# Altium schematic symbol library SparkFun-Connectors.SCHLIB: 326 symbols (part 2 of 3)
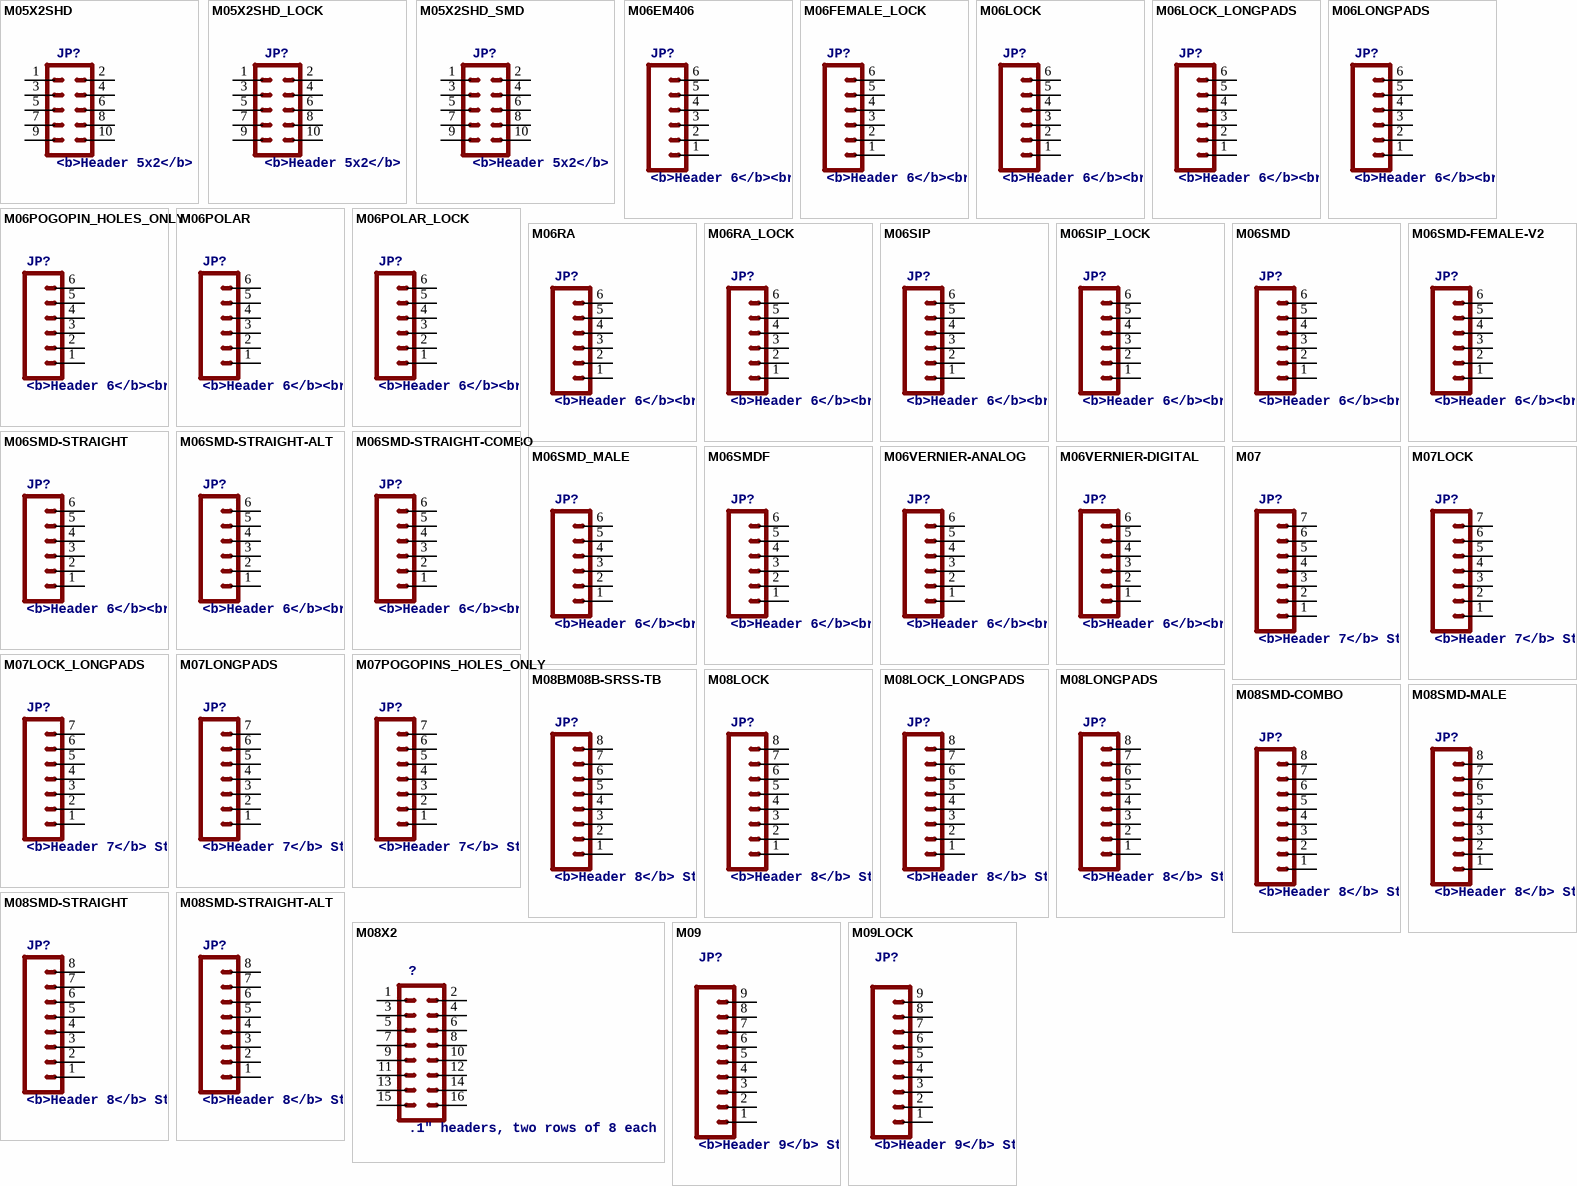
[diagram p10: symbols M05X2SHD to M09LOCK]

## M06LOCK
designator JP?, comment <b>Header 6</b><br> / Standard 6-pin 0.1" header. Use with straight break away headers (SKU : PRT-00116), right angle break away headers (PRT-00553), swiss pins (PRT-00743), machine pins (PRT-00117), and female headers (PRT-00115). Molex polarized connector foot print use with SKU : PRT-08094 with associated crimp pins and housings.<p> / NOTES ON THE VARIANTS LOCK and LOCK_LONGPADS... / This footprint was designed to help hold the alignment of a through-hole component (i.e.  6-pin header) while soldering it into place. You may notice that each hole has been shifted either up or down by 0.005 of an inch from it's more standard position (which is a perfectly straight line).  This slight alteration caused the pins (the squares in the middle) to touch the edges of the holes.  Because they are alternating, it causes a "brace" to hold the component in place.  0.005 has proven to be the perfect amount of "off-center" position when using our standard breakaway headers. Although looks a little odd when you look at the bare footprint, once you have a header in there, the alteration is very hard to notice.  Also,if you push a header all the way into place, it is covered up entirely on the bottom side.  This idea of altering the position of holes to aid alignment / will be further integrated into the Sparkfun Library for other footprints.  It can help hold any component with 3 or more connection pins.
footprint 1X06_LOCK
pins: 1, 2, 3, 4, 5, 6

## M06LOCK_LONGPADS
designator JP?, comment <b>Header 6</b><br> / Standard 6-pin 0.1" header. Use with straight break away headers (SKU : PRT-00116), right angle break away headers (PRT-00553), swiss pins (PRT-00743), machine pins (PRT-00117), and female headers (PRT-00115). Molex polarized connector foot print use with SKU : PRT-08094 with associated crimp pins and housings.<p> / NOTES ON THE VARIANTS LOCK and LOCK_LONGPADS... / This footprint was designed to help hold the alignment of a through-hole component (i.e.  6-pin header) while soldering it into place. You may notice that each hole has been shifted either up or down by 0.005 of an inch from it's more standard position (which is a perfectly straight line).  This slight alteration caused the pins (the squares in the middle) to touch the edges of the holes.  Because they are alternating, it causes a "brace" to hold the component in place.  0.005 has proven to be the perfect amount of "off-center" position when using our standard breakaway headers. Although looks a little odd when you look at the bare footprint, once you have a header in there, the alteration is very hard to notice.  Also,if you push a header all the way into place, it is covered up entirely on the bottom side.  This idea of altering the position of holes to aid alignment / will be further integrated into the Sparkfun Library for other footprints.  It can help hold any component with 3 or more connection pins.
footprint 1X06_LOCK_LONGPADS
pins: 1, 2, 3, 4, 5, 6

## M06LONGPADS
designator JP?, comment <b>Header 6</b><br> / Standard 6-pin 0.1" header. Use with straight break away headers (SKU : PRT-00116), right angle break away headers (PRT-00553), swiss pins (PRT-00743), machine pins (PRT-00117), and female headers (PRT-00115). Molex polarized connector foot print use with SKU : PRT-08094 with associated crimp pins and housings.<p> / NOTES ON THE VARIANTS LOCK and LOCK_LONGPADS... / This footprint was designed to help hold the alignment of a through-hole component (i.e.  6-pin header) while soldering it into place. You may notice that each hole has been shifted either up or down by 0.005 of an inch from it's more standard position (which is a perfectly straight line).  This slight alteration caused the pins (the squares in the middle) to touch the edges of the holes.  Because they are alternating, it causes a "brace" to hold the component in place.  0.005 has proven to be the perfect amount of "off-center" position when using our standard breakaway headers. Although looks a little odd when you look at the bare footprint, once you have a header in there, the alteration is very hard to notice.  Also,if you push a header all the way into place, it is covered up entirely on the bottom side.  This idea of altering the position of holes to aid alignment / will be further integrated into the Sparkfun Library for other footprints.  It can help hold any component with 3 or more connection pins.
footprint 1X06_LONGPADS
pins: 1, 2, 3, 4, 5, 6

## M06POGOPIN_HOLES_ONLY
designator JP?, comment <b>Header 6</b><br> / Standard 6-pin 0.1" header. Use with straight break away headers (SKU : PRT-00116), right angle break away headers (PRT-00553), swiss pins (PRT-00743), machine pins (PRT-00117), and female headers (PRT-00115). Molex polarized connector foot print use with SKU : PRT-08094 with associated crimp pins and housings.<p> / NOTES ON THE VARIANTS LOCK and LOCK_LONGPADS... / This footprint was designed to help hold the alignment of a through-hole component (i.e.  6-pin header) while soldering it into place. You may notice that each hole has been shifted either up or down by 0.005 of an inch from it's more standard position (which is a perfectly straight line).  This slight alteration caused the pins (the squares in the middle) to touch the edges of the holes.  Because they are alternating, it causes a "brace" to hold the component in place.  0.005 has proven to be the perfect amount of "off-center" position when using our standard breakaway headers. Although looks a little odd when you look at the bare footprint, once you have a header in there, the alteration is very hard to notice.  Also,if you push a header all the way into place, it is covered up entirely on the bottom side.  This idea of altering the position of holes to aid alignment / will be further integrated into the Sparkfun Library for other footprints.  It can help hold any component with 3 or more connection pins.
footprint 1X06_HOLES_ONLY
pins: 1, 2, 3, 4, 5, 6

## M06POLAR
designator JP?, comment <b>Header 6</b><br> / Standard 6-pin 0.1" header. Use with straight break away headers (SKU : PRT-00116), right angle break away headers (PRT-00553), swiss pins (PRT-00743), machine pins (PRT-00117), and female headers (PRT-00115). Molex polarized connector foot print use with SKU : PRT-08094 with associated crimp pins and housings.<p> / NOTES ON THE VARIANTS LOCK and LOCK_LONGPADS... / This footprint was designed to help hold the alignment of a through-hole component (i.e.  6-pin header) while soldering it into place. You may notice that each hole has been shifted either up or down by 0.005 of an inch from it's more standard position (which is a perfectly straight line).  This slight alteration caused the pins (the squares in the middle) to touch the edges of the holes.  Because they are alternating, it causes a "brace" to hold the component in place.  0.005 has proven to be the perfect amount of "off-center" position when using our standard breakaway headers. Although looks a little odd when you look at the bare footprint, once you have a header in there, the alteration is very hard to notice.  Also,if you push a header all the way into place, it is covered up entirely on the bottom side.  This idea of altering the position of holes to aid alignment / will be further integrated into the Sparkfun Library for other footprints.  It can help hold any component with 3 or more connection pins.
footprint MOLEX-1X6
pins: 1, 2, 3, 4, 5, 6

## M06POLAR_LOCK
designator JP?, comment <b>Header 6</b><br> / Standard 6-pin 0.1" header. Use with straight break away headers (SKU : PRT-00116), right angle break away headers (PRT-00553), swiss pins (PRT-00743), machine pins (PRT-00117), and female headers (PRT-00115). Molex polarized connector foot print use with SKU : PRT-08094 with associated crimp pins and housings.<p> / NOTES ON THE VARIANTS LOCK and LOCK_LONGPADS... / This footprint was designed to help hold the alignment of a through-hole component (i.e.  6-pin header) while soldering it into place. You may notice that each hole has been shifted either up or down by 0.005 of an inch from it's more standard position (which is a perfectly straight line).  This slight alteration caused the pins (the squares in the middle) to touch the edges of the holes.  Because they are alternating, it causes a "brace" to hold the component in place.  0.005 has proven to be the perfect amount of "off-center" position when using our standard breakaway headers. Although looks a little odd when you look at the bare footprint, once you have a header in there, the alteration is very hard to notice.  Also,if you push a header all the way into place, it is covered up entirely on the bottom side.  This idea of altering the position of holes to aid alignment / will be further integrated into the Sparkfun Library for other footprints.  It can help hold any component with 3 or more connection pins.
footprint MOLEX-1X6_LOCK
pins: 1, 2, 3, 4, 5, 6

## M06RA
designator JP?, comment <b>Header 6</b><br> / Standard 6-pin 0.1" header. Use with straight break away headers (SKU : PRT-00116), right angle break away headers (PRT-00553), swiss pins (PRT-00743), machine pins (PRT-00117), and female headers (PRT-00115). Molex polarized connector foot print use with SKU : PRT-08094 with associated crimp pins and housings.<p> / NOTES ON THE VARIANTS LOCK and LOCK_LONGPADS... / This footprint was designed to help hold the alignment of a through-hole component (i.e.  6-pin header) while soldering it into place. You may notice that each hole has been shifted either up or down by 0.005 of an inch from it's more standard position (which is a perfectly straight line).  This slight alteration caused the pins (the squares in the middle) to touch the edges of the holes.  Because they are alternating, it causes a "brace" to hold the component in place.  0.005 has proven to be the perfect amount of "off-center" position when using our standard breakaway headers. Although looks a little odd when you look at the bare footprint, once you have a header in there, the alteration is very hard to notice.  Also,if you push a header all the way into place, it is covered up entirely on the bottom side.  This idea of altering the position of holes to aid alignment / will be further integrated into the Sparkfun Library for other footprints.  It can help hold any component with 3 or more connection pins.
footprint MOLEX-1X6-RA
pins: 1, 2, 3, 4, 5, 6

## M06RA_LOCK
designator JP?, comment <b>Header 6</b><br> / Standard 6-pin 0.1" header. Use with straight break away headers (SKU : PRT-00116), right angle break away headers (PRT-00553), swiss pins (PRT-00743), machine pins (PRT-00117), and female headers (PRT-00115). Molex polarized connector foot print use with SKU : PRT-08094 with associated crimp pins and housings.<p> / NOTES ON THE VARIANTS LOCK and LOCK_LONGPADS... / This footprint was designed to help hold the alignment of a through-hole component (i.e.  6-pin header) while soldering it into place. You may notice that each hole has been shifted either up or down by 0.005 of an inch from it's more standard position (which is a perfectly straight line).  This slight alteration caused the pins (the squares in the middle) to touch the edges of the holes.  Because they are alternating, it causes a "brace" to hold the component in place.  0.005 has proven to be the perfect amount of "off-center" position when using our standard breakaway headers. Although looks a little odd when you look at the bare footprint, once you have a header in there, the alteration is very hard to notice.  Also,if you push a header all the way into place, it is covered up entirely on the bottom side.  This idea of altering the position of holes to aid alignment / will be further integrated into the Sparkfun Library for other footprints.  It can help hold any component with 3 or more connection pins.
footprint MOLEX-1X6-RA_LOCK
pins: 1, 2, 3, 4, 5, 6

## M06SIP
designator JP?, comment <b>Header 6</b><br> / Standard 6-pin 0.1" header. Use with straight break away headers (SKU : PRT-00116), right angle break away headers (PRT-00553), swiss pins (PRT-00743), machine pins (PRT-00117), and female headers (PRT-00115). Molex polarized connector foot print use with SKU : PRT-08094 with associated crimp pins and housings.<p> / NOTES ON THE VARIANTS LOCK and LOCK_LONGPADS... / This footprint was designed to help hold the alignment of a through-hole component (i.e.  6-pin header) while soldering it into place. You may notice that each hole has been shifted either up or down by 0.005 of an inch from it's more standard position (which is a perfectly straight line).  This slight alteration caused the pins (the squares in the middle) to touch the edges of the holes.  Because they are alternating, it causes a "brace" to hold the component in place.  0.005 has proven to be the perfect amount of "off-center" position when using our standard breakaway headers. Although looks a little odd when you look at the bare footprint, once you have a header in there, the alteration is very hard to notice.  Also,if you push a header all the way into place, it is covered up entirely on the bottom side.  This idea of altering the position of holes to aid alignment / will be further integrated into the Sparkfun Library for other footprints.  It can help hold any component with 3 or more connection pins.
footprint 1X06
pins: 1, 2, 3, 4, 5, 6

## M06SIP_LOCK
designator JP?, comment <b>Header 6</b><br> / Standard 6-pin 0.1" header. Use with straight break away headers (SKU : PRT-00116), right angle break away headers (PRT-00553), swiss pins (PRT-00743), machine pins (PRT-00117), and female headers (PRT-00115). Molex polarized connector foot print use with SKU : PRT-08094 with associated crimp pins and housings.<p> / NOTES ON THE VARIANTS LOCK and LOCK_LONGPADS... / This footprint was designed to help hold the alignment of a through-hole component (i.e.  6-pin header) while soldering it into place. You may notice that each hole has been shifted either up or down by 0.005 of an inch from it's more standard position (which is a perfectly straight line).  This slight alteration caused the pins (the squares in the middle) to touch the edges of the holes.  Because they are alternating, it causes a "brace" to hold the component in place.  0.005 has proven to be the perfect amount of "off-center" position when using our standard breakaway headers. Although looks a little odd when you look at the bare footprint, once you have a header in there, the alteration is very hard to notice.  Also,if you push a header all the way into place, it is covered up entirely on the bottom side.  This idea of altering the position of holes to aid alignment / will be further integrated into the Sparkfun Library for other footprints.  It can help hold any component with 3 or more connection pins.
footprint 1X06-SIP_LOCK
pins: 1, 2, 3, 4, 5, 6

## M06SMD
designator JP?, comment <b>Header 6</b><br> / Standard 6-pin 0.1" header. Use with straight break away headers (SKU : PRT-00116), right angle break away headers (PRT-00553), swiss pins (PRT-00743), machine pins (PRT-00117), and female headers (PRT-00115). Molex polarized connector foot print use with SKU : PRT-08094 with associated crimp pins and housings.<p> / NOTES ON THE VARIANTS LOCK and LOCK_LONGPADS... / This footprint was designed to help hold the alignment of a through-hole component (i.e.  6-pin header) while soldering it into place. You may notice that each hole has been shifted either up or down by 0.005 of an inch from it's more standard position (which is a perfectly straight line).  This slight alteration caused the pins (the squares in the middle) to touch the edges of the holes.  Because they are alternating, it causes a "brace" to hold the component in place.  0.005 has proven to be the perfect amount of "off-center" position when using our standard breakaway headers. Although looks a little odd when you look at the bare footprint, once you have a header in there, the alteration is very hard to notice.  Also,if you push a header all the way into place, it is covered up entirely on the bottom side.  This idea of altering the position of holes to aid alignment / will be further integrated into the Sparkfun Library for other footprints.  It can help hold any component with 3 or more connection pins.
footprint 1X06-SMD
pins: 1, 2, 3, 4, 5, 6

## M06SMD-FEMALE-V2
designator JP?, comment <b>Header 6</b><br> / Standard 6-pin 0.1" header. Use with straight break away headers (SKU : PRT-00116), right angle break away headers (PRT-00553), swiss pins (PRT-00743), machine pins (PRT-00117), and female headers (PRT-00115). Molex polarized connector foot print use with SKU : PRT-08094 with associated crimp pins and housings.<p> / NOTES ON THE VARIANTS LOCK and LOCK_LONGPADS... / This footprint was designed to help hold the alignment of a through-hole component (i.e.  6-pin header) while soldering it into place. You may notice that each hole has been shifted either up or down by 0.005 of an inch from it's more standard position (which is a perfectly straight line).  This slight alteration caused the pins (the squares in the middle) to touch the edges of the holes.  Because they are alternating, it causes a "brace" to hold the component in place.  0.005 has proven to be the perfect amount of "off-center" position when using our standard breakaway headers. Although looks a little odd when you look at the bare footprint, once you have a header in there, the alteration is very hard to notice.  Also,if you push a header all the way into place, it is covered up entirely on the bottom side.  This idea of altering the position of holes to aid alignment / will be further integrated into the Sparkfun Library for other footprints.  It can help hold any component with 3 or more connection pins.
footprint 1X06-SMD-FEMALE-V2
pins: 1, 2, 3, 4, 5, 6

## M06SMD-STRAIGHT
designator JP?, comment <b>Header 6</b><br> / Standard 6-pin 0.1" header. Use with straight break away headers (SKU : PRT-00116), right angle break away headers (PRT-00553), swiss pins (PRT-00743), machine pins (PRT-00117), and female headers (PRT-00115). Molex polarized connector foot print use with SKU : PRT-08094 with associated crimp pins and housings.<p> / NOTES ON THE VARIANTS LOCK and LOCK_LONGPADS... / This footprint was designed to help hold the alignment of a through-hole component (i.e.  6-pin header) while soldering it into place. You may notice that each hole has been shifted either up or down by 0.005 of an inch from it's more standard position (which is a perfectly straight line).  This slight alteration caused the pins (the squares in the middle) to touch the edges of the holes.  Because they are alternating, it causes a "brace" to hold the component in place.  0.005 has proven to be the perfect amount of "off-center" position when using our standard breakaway headers. Although looks a little odd when you look at the bare footprint, once you have a header in there, the alteration is very hard to notice.  Also,if you push a header all the way into place, it is covered up entirely on the bottom side.  This idea of altering the position of holes to aid alignment / will be further integrated into the Sparkfun Library for other footprints.  It can help hold any component with 3 or more connection pins.
footprint 1X06_SMD_STRAIGHT
pins: 1, 2, 3, 4, 5, 6

## M06SMD-STRAIGHT-ALT
designator JP?, comment <b>Header 6</b><br> / Standard 6-pin 0.1" header. Use with straight break away headers (SKU : PRT-00116), right angle break away headers (PRT-00553), swiss pins (PRT-00743), machine pins (PRT-00117), and female headers (PRT-00115). Molex polarized connector foot print use with SKU : PRT-08094 with associated crimp pins and housings.<p> / NOTES ON THE VARIANTS LOCK and LOCK_LONGPADS... / This footprint was designed to help hold the alignment of a through-hole component (i.e.  6-pin header) while soldering it into place. You may notice that each hole has been shifted either up or down by 0.005 of an inch from it's more standard position (which is a perfectly straight line).  This slight alteration caused the pins (the squares in the middle) to touch the edges of the holes.  Because they are alternating, it causes a "brace" to hold the component in place.  0.005 has proven to be the perfect amount of "off-center" position when using our standard breakaway headers. Although looks a little odd when you look at the bare footprint, once you have a header in there, the alteration is very hard to notice.  Also,if you push a header all the way into place, it is covered up entirely on the bottom side.  This idea of altering the position of holes to aid alignment / will be further integrated into the Sparkfun Library for other footprints.  It can help hold any component with 3 or more connection pins.
footprint 1X06_SMD_STRAIGHT_ALT
pins: 1, 2, 3, 4, 5, 6

## M06SMD-STRAIGHT-COMBO
designator JP?, comment <b>Header 6</b><br> / Standard 6-pin 0.1" header. Use with straight break away headers (SKU : PRT-00116), right angle break away headers (PRT-00553), swiss pins (PRT-00743), machine pins (PRT-00117), and female headers (PRT-00115). Molex polarized connector foot print use with SKU : PRT-08094 with associated crimp pins and housings.<p> / NOTES ON THE VARIANTS LOCK and LOCK_LONGPADS... / This footprint was designed to help hold the alignment of a through-hole component (i.e.  6-pin header) while soldering it into place. You may notice that each hole has been shifted either up or down by 0.005 of an inch from it's more standard position (which is a perfectly straight line).  This slight alteration caused the pins (the squares in the middle) to touch the edges of the holes.  Because they are alternating, it causes a "brace" to hold the component in place.  0.005 has proven to be the perfect amount of "off-center" position when using our standard breakaway headers. Although looks a little odd when you look at the bare footprint, once you have a header in there, the alteration is very hard to notice.  Also,if you push a header all the way into place, it is covered up entirely on the bottom side.  This idea of altering the position of holes to aid alignment / will be further integrated into the Sparkfun Library for other footprints.  It can help hold any component with 3 or more connection pins.
footprint 1X06_SMD_STRAIGHT_COMBO
pins: 1, 2, 3, 4, 5, 6

## M06SMD_MALE
designator JP?, comment <b>Header 6</b><br> / Standard 6-pin 0.1" header. Use with straight break away headers (SKU : PRT-00116), right angle break away headers (PRT-00553), swiss pins (PRT-00743), machine pins (PRT-00117), and female headers (PRT-00115). Molex polarized connector foot print use with SKU : PRT-08094 with associated crimp pins and housings.<p> / NOTES ON THE VARIANTS LOCK and LOCK_LONGPADS... / This footprint was designed to help hold the alignment of a through-hole component (i.e.  6-pin header) while soldering it into place. You may notice that each hole has been shifted either up or down by 0.005 of an inch from it's more standard position (which is a perfectly straight line).  This slight alteration caused the pins (the squares in the middle) to touch the edges of the holes.  Because they are alternating, it causes a "brace" to hold the component in place.  0.005 has proven to be the perfect amount of "off-center" position when using our standard breakaway headers. Although looks a little odd when you look at the bare footprint, once you have a header in there, the alteration is very hard to notice.  Also,if you push a header all the way into place, it is covered up entirely on the bottom side.  This idea of altering the position of holes to aid alignment / will be further integrated into the Sparkfun Library for other footprints.  It can help hold any component with 3 or more connection pins.
PROD_ID: CONN-11293
footprint 1X06_SMD_MALE
pins: 1, 2, 3, 4, 5, 6

## M06SMDF
designator JP?, comment <b>Header 6</b><br> / Standard 6-pin 0.1" header. Use with straight break away headers (SKU : PRT-00116), right angle break away headers (PRT-00553), swiss pins (PRT-00743), machine pins (PRT-00117), and female headers (PRT-00115). Molex polarized connector foot print use with SKU : PRT-08094 with associated crimp pins and housings.<p> / NOTES ON THE VARIANTS LOCK and LOCK_LONGPADS... / This footprint was designed to help hold the alignment of a through-hole component (i.e.  6-pin header) while soldering it into place. You may notice that each hole has been shifted either up or down by 0.005 of an inch from it's more standard position (which is a perfectly straight line).  This slight alteration caused the pins (the squares in the middle) to touch the edges of the holes.  Because they are alternating, it causes a "brace" to hold the component in place.  0.005 has proven to be the perfect amount of "off-center" position when using our standard breakaway headers. Although looks a little odd when you look at the bare footprint, once you have a header in there, the alteration is very hard to notice.  Also,if you push a header all the way into place, it is covered up entirely on the bottom side.  This idea of altering the position of holes to aid alignment / will be further integrated into the Sparkfun Library for other footprints.  It can help hold any component with 3 or more connection pins.
footprint 1X06-SMD-FEMALE
pins: 1, 2, 3, 4, 5, 6

## M06VERNIER-ANALOG
designator JP?, comment <b>Header 6</b><br> / Standard 6-pin 0.1" header. Use with straight break away headers (SKU : PRT-00116), right angle break away headers (PRT-00553), swiss pins (PRT-00743), machine pins (PRT-00117), and female headers (PRT-00115). Molex polarized connector foot print use with SKU : PRT-08094 with associated crimp pins and housings.<p> / NOTES ON THE VARIANTS LOCK and LOCK_LONGPADS... / This footprint was designed to help hold the alignment of a through-hole component (i.e.  6-pin header) while soldering it into place. You may notice that each hole has been shifted either up or down by 0.005 of an inch from it's more standard position (which is a perfectly straight line).  This slight alteration caused the pins (the squares in the middle) to touch the edges of the holes.  Because they are alternating, it causes a "brace" to hold the component in place.  0.005 has proven to be the perfect amount of "off-center" position when using our standard breakaway headers. Although looks a little odd when you look at the bare footprint, once you have a header in there, the alteration is very hard to notice.  Also,if you push a header all the way into place, it is covered up entirely on the bottom side.  This idea of altering the position of holes to aid alignment / will be further integrated into the Sparkfun Library for other footprints.  It can help hold any component with 3 or more connection pins.
footprint BTA
pins: 1, 2, 3, 4, 5, 6

## M06VERNIER-DIGITAL
designator JP?, comment <b>Header 6</b><br> / Standard 6-pin 0.1" header. Use with straight break away headers (SKU : PRT-00116), right angle break away headers (PRT-00553), swiss pins (PRT-00743), machine pins (PRT-00117), and female headers (PRT-00115). Molex polarized connector foot print use with SKU : PRT-08094 with associated crimp pins and housings.<p> / NOTES ON THE VARIANTS LOCK and LOCK_LONGPADS... / This footprint was designed to help hold the alignment of a through-hole component (i.e.  6-pin header) while soldering it into place. You may notice that each hole has been shifted either up or down by 0.005 of an inch from it's more standard position (which is a perfectly straight line).  This slight alteration caused the pins (the squares in the middle) to touch the edges of the holes.  Because they are alternating, it causes a "brace" to hold the component in place.  0.005 has proven to be the perfect amount of "off-center" position when using our standard breakaway headers. Although looks a little odd when you look at the bare footprint, once you have a header in there, the alteration is very hard to notice.  Also,if you push a header all the way into place, it is covered up entirely on the bottom side.  This idea of altering the position of holes to aid alignment / will be further integrated into the Sparkfun Library for other footprints.  It can help hold any component with 3 or more connection pins.
footprint BTD
pins: 1, 2, 3, 4, 5, 6

## M07
designator JP?, comment <b>Header 7</b> / Standard 7-pin 0.1" header. Use with straight break away headers (SKU : PRT-00116), right angle break away headers (PRT-00553), swiss pins (PRT-00743), machine pins (PRT-00117), and female headers (PRT-00115).  NOTES ON THE VARIANTS LOCK and LOCK_LONGPADS... This footprint was designed to help hold the alignment of a through-hole component (i.e. 7-pin header) while soldering it into place. You may notice that each hole has been shifted either up or down by 0.005 of an inch from it's more standard position (which is usually a perfectly straight line). This slight alteration caused the pins (the squares in the middle) to touch the edges of the holes. Because they are alternating, it causes a "brace" to hold the header in place. 0.005 has proven to be the perfect amount of "off-center" position when using our standard breakaway headers. Although looks a little odd when you look at the bare footprint, once you have a header in there, the alteration is very hard to notice. Also, if you push a header all the way into place, it is covered up entirely on the bottom side. This idea of altering the position of holes to aid alignment will be further integrated into the Sparkfun Library for other footprints. It can help hold any component with 3 or more connection pins.
footprint 1X07
pins: 1, 2, 3, 4, 5, 6, 7

## M07LOCK
designator JP?, comment <b>Header 7</b> / Standard 7-pin 0.1" header. Use with straight break away headers (SKU : PRT-00116), right angle break away headers (PRT-00553), swiss pins (PRT-00743), machine pins (PRT-00117), and female headers (PRT-00115).  NOTES ON THE VARIANTS LOCK and LOCK_LONGPADS... This footprint was designed to help hold the alignment of a through-hole component (i.e. 7-pin header) while soldering it into place. You may notice that each hole has been shifted either up or down by 0.005 of an inch from it's more standard position (which is usually a perfectly straight line). This slight alteration caused the pins (the squares in the middle) to touch the edges of the holes. Because they are alternating, it causes a "brace" to hold the header in place. 0.005 has proven to be the perfect amount of "off-center" position when using our standard breakaway headers. Although looks a little odd when you look at the bare footprint, once you have a header in there, the alteration is very hard to notice. Also, if you push a header all the way into place, it is covered up entirely on the bottom side. This idea of altering the position of holes to aid alignment will be further integrated into the Sparkfun Library for other footprints. It can help hold any component with 3 or more connection pins.
footprint 1X07_LOCK
pins: 1, 2, 3, 4, 5, 6, 7

## M07LOCK_LONGPADS
designator JP?, comment <b>Header 7</b> / Standard 7-pin 0.1" header. Use with straight break away headers (SKU : PRT-00116), right angle break away headers (PRT-00553), swiss pins (PRT-00743), machine pins (PRT-00117), and female headers (PRT-00115).  NOTES ON THE VARIANTS LOCK and LOCK_LONGPADS... This footprint was designed to help hold the alignment of a through-hole component (i.e. 7-pin header) while soldering it into place. You may notice that each hole has been shifted either up or down by 0.005 of an inch from it's more standard position (which is usually a perfectly straight line). This slight alteration caused the pins (the squares in the middle) to touch the edges of the holes. Because they are alternating, it causes a "brace" to hold the header in place. 0.005 has proven to be the perfect amount of "off-center" position when using our standard breakaway headers. Although looks a little odd when you look at the bare footprint, once you have a header in there, the alteration is very hard to notice. Also, if you push a header all the way into place, it is covered up entirely on the bottom side. This idea of altering the position of holes to aid alignment will be further integrated into the Sparkfun Library for other footprints. It can help hold any component with 3 or more connection pins.
footprint 1X07_LOCK_LONGPADS
pins: 1, 2, 3, 4, 5, 6, 7

## M07LONGPADS
designator JP?, comment <b>Header 7</b> / Standard 7-pin 0.1" header. Use with straight break away headers (SKU : PRT-00116), right angle break away headers (PRT-00553), swiss pins (PRT-00743), machine pins (PRT-00117), and female headers (PRT-00115).  NOTES ON THE VARIANTS LOCK and LOCK_LONGPADS... This footprint was designed to help hold the alignment of a through-hole component (i.e. 7-pin header) while soldering it into place. You may notice that each hole has been shifted either up or down by 0.005 of an inch from it's more standard position (which is usually a perfectly straight line). This slight alteration caused the pins (the squares in the middle) to touch the edges of the holes. Because they are alternating, it causes a "brace" to hold the header in place. 0.005 has proven to be the perfect amount of "off-center" position when using our standard breakaway headers. Although looks a little odd when you look at the bare footprint, once you have a header in there, the alteration is very hard to notice. Also, if you push a header all the way into place, it is covered up entirely on the bottom side. This idea of altering the position of holes to aid alignment will be further integrated into the Sparkfun Library for other footprints. It can help hold any component with 3 or more connection pins.
footprint 1X07_LONGPADS
pins: 1, 2, 3, 4, 5, 6, 7

## M07POGOPINS_HOLES_ONLY
designator JP?, comment <b>Header 7</b> / Standard 7-pin 0.1" header. Use with straight break away headers (SKU : PRT-00116), right angle break away headers (PRT-00553), swiss pins (PRT-00743), machine pins (PRT-00117), and female headers (PRT-00115).  NOTES ON THE VARIANTS LOCK and LOCK_LONGPADS... This footprint was designed to help hold the alignment of a through-hole component (i.e. 7-pin header) while soldering it into place. You may notice that each hole has been shifted either up or down by 0.005 of an inch from it's more standard position (which is usually a perfectly straight line). This slight alteration caused the pins (the squares in the middle) to touch the edges of the holes. Because they are alternating, it causes a "brace" to hold the header in place. 0.005 has proven to be the perfect amount of "off-center" position when using our standard breakaway headers. Although looks a little odd when you look at the bare footprint, once you have a header in there, the alteration is very hard to notice. Also, if you push a header all the way into place, it is covered up entirely on the bottom side. This idea of altering the position of holes to aid alignment will be further integrated into the Sparkfun Library for other footprints. It can help hold any component with 3 or more connection pins.
footprint 1X07_HOLES_ONLY
pins: 1, 2, 3, 4, 5, 6, 7

## M08BM08B-SRSS-TB
designator JP?, comment <b>Header 8</b> / Standard 8-pin 0.1" header. Use with straight break away headers (SKU : PRT-00116), right angle break away headers (PRT-00553), swiss pins (PRT-00743), machine pins (PRT-00117), and female headers (PRT-00115).
footprint BM08B-SRSS-TB
pins: 1, 2, 3, 4, 5, 6, 7, 8

## M08LOCK
designator JP?, comment <b>Header 8</b> / Standard 8-pin 0.1" header. Use with straight break away headers (SKU : PRT-00116), right angle break away headers (PRT-00553), swiss pins (PRT-00743), machine pins (PRT-00117), and female headers (PRT-00115).
footprint 1X08_LOCK
pins: 1, 2, 3, 4, 5, 6, 7, 8

## M08LOCK_LONGPADS
designator JP?, comment <b>Header 8</b> / Standard 8-pin 0.1" header. Use with straight break away headers (SKU : PRT-00116), right angle break away headers (PRT-00553), swiss pins (PRT-00743), machine pins (PRT-00117), and female headers (PRT-00115).
footprint 1X08_LOCK_LONGPADS
pins: 1, 2, 3, 4, 5, 6, 7, 8

## M08LONGPADS
designator JP?, comment <b>Header 8</b> / Standard 8-pin 0.1" header. Use with straight break away headers (SKU : PRT-00116), right angle break away headers (PRT-00553), swiss pins (PRT-00743), machine pins (PRT-00117), and female headers (PRT-00115).
footprint 1X08_LONGPADS
pins: 1, 2, 3, 4, 5, 6, 7, 8

## M08SMD-COMBO
designator JP?, comment <b>Header 8</b> / Standard 8-pin 0.1" header. Use with straight break away headers (SKU : PRT-00116), right angle break away headers (PRT-00553), swiss pins (PRT-00743), machine pins (PRT-00117), and female headers (PRT-00115).
footprint 1X08_SMD_COMBINED
pins: 1, 2, 3, 4, 5, 6, 7, 8

## M08SMD-MALE
designator JP?, comment <b>Header 8</b> / Standard 8-pin 0.1" header. Use with straight break away headers (SKU : PRT-00116), right angle break away headers (PRT-00553), swiss pins (PRT-00743), machine pins (PRT-00117), and female headers (PRT-00115).
PROD_ID: CONN-11292
footprint 1X08_SMD_MALE
pins: 1, 2, 3, 4, 5, 6, 7, 8

## M08SMD-STRAIGHT
designator JP?, comment <b>Header 8</b> / Standard 8-pin 0.1" header. Use with straight break away headers (SKU : PRT-00116), right angle break away headers (PRT-00553), swiss pins (PRT-00743), machine pins (PRT-00117), and female headers (PRT-00115).
footprint 1X08_SMD
pins: 1, 2, 3, 4, 5, 6, 7, 8

## M08SMD-STRAIGHT-ALT
designator JP?, comment <b>Header 8</b> / Standard 8-pin 0.1" header. Use with straight break away headers (SKU : PRT-00116), right angle break away headers (PRT-00553), swiss pins (PRT-00743), machine pins (PRT-00117), and female headers (PRT-00115).
footprint 1X08_SMD_ALT
pins: 1, 2, 3, 4, 5, 6, 7, 8

## M08X2
designator ?, comment .1" headers, two rows of 8 each
footprint 2X8
pins: 1, 2, 3, 4, 5, 6, 7, 8, 9, 10, 11, 12, 13, 14, 15, 16

## M09
designator JP?, comment <b>Header 9</b> / Standard 9-pin 0.1" header. Use with straight break away headers (SKU : PRT-00116), right angle break away headers (PRT-00553), swiss pins (PRT-00743), machine pins (PRT-00117), and female headers (PRT-00115).
footprint 1X09
pins: 1, 2, 3, 4, 5, 6, 7, 8, 9

## M09LOCK
designator JP?, comment <b>Header 9</b> / Standard 9-pin 0.1" header. Use with straight break away headers (SKU : PRT-00116), right angle break away headers (PRT-00553), swiss pins (PRT-00743), machine pins (PRT-00117), and female headers (PRT-00115).
footprint 1X09_LOCK
pins: 1, 2, 3, 4, 5, 6, 7, 8, 9

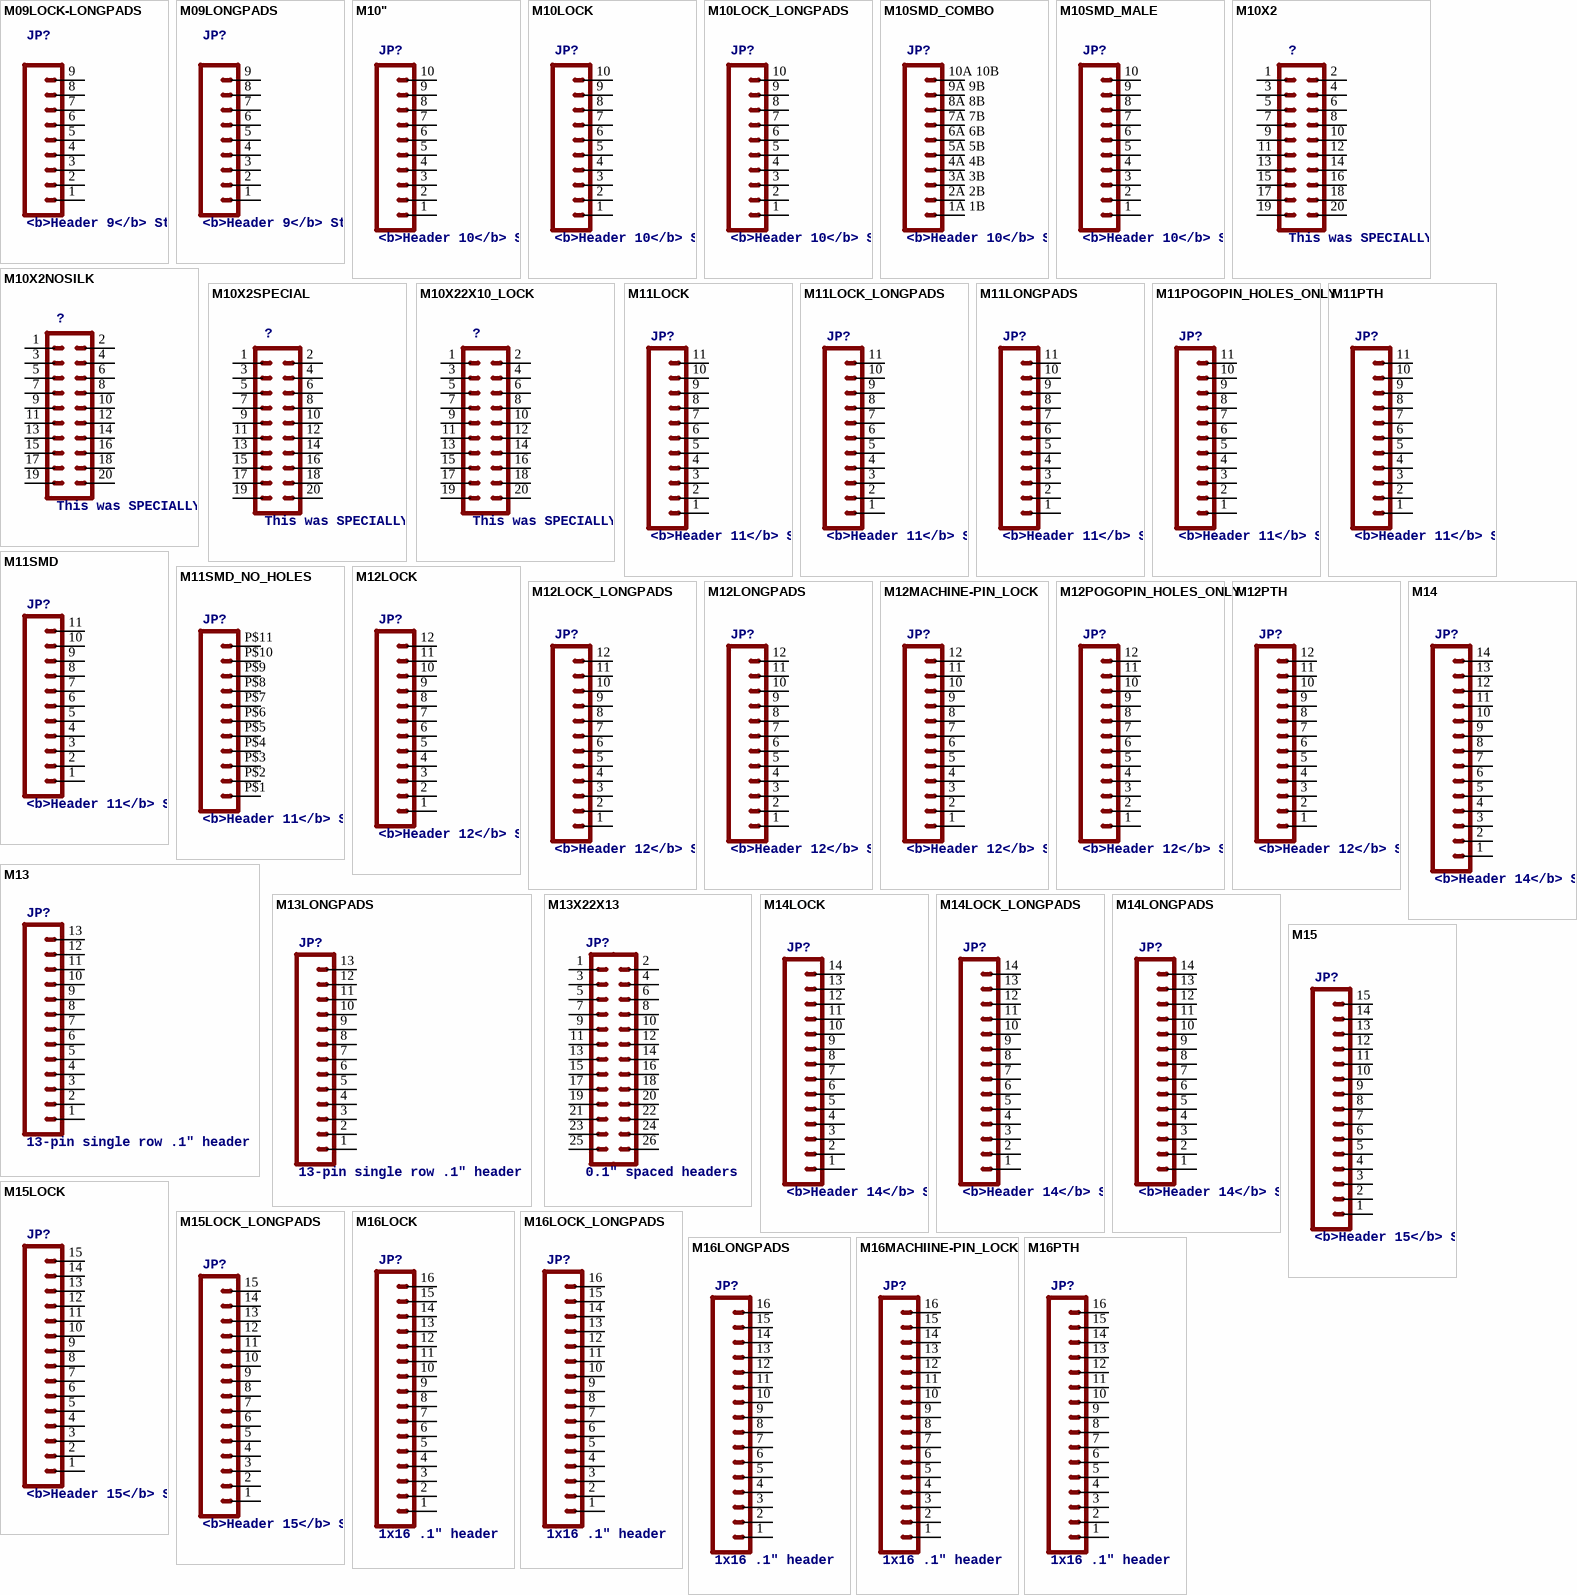
[diagram p5: symbols M09LOCK-LONGPADS to M16PTH]

## M09LOCK-LONGPADS
designator JP?, comment <b>Header 9</b> / Standard 9-pin 0.1" header. Use with straight break away headers (SKU : PRT-00116), right angle break away headers (PRT-00553), swiss pins (PRT-00743), machine pins (PRT-00117), and female headers (PRT-00115).
footprint 1X09_LOCK_LONGPADS
pins: 1, 2, 3, 4, 5, 6, 7, 8, 9

## M09LONGPADS
designator JP?, comment <b>Header 9</b> / Standard 9-pin 0.1" header. Use with straight break away headers (SKU : PRT-00116), right angle break away headers (PRT-00553), swiss pins (PRT-00743), machine pins (PRT-00117), and female headers (PRT-00115).
footprint 1X09_LONGPADS
pins: 1, 2, 3, 4, 5, 6, 7, 8, 9

## M10"
designator JP?, comment <b>Header 10</b> / Standard 10-pin 0.1" header. Use with straight break away headers (SKU : PRT-00116), right angle break away headers (PRT-00553), swiss pins (PRT-00743), machine pins (PRT-00117), and female headers (PRT-00115).
footprint 1X10
pins: 1, 2, 3, 4, 5, 6, 7, 8, 9, 10

## M10LOCK
designator JP?, comment <b>Header 10</b> / Standard 10-pin 0.1" header. Use with straight break away headers (SKU : PRT-00116), right angle break away headers (PRT-00553), swiss pins (PRT-00743), machine pins (PRT-00117), and female headers (PRT-00115).
footprint 1X10_LOCK
pins: 1, 2, 3, 4, 5, 6, 7, 8, 9, 10

## M10LOCK_LONGPADS
designator JP?, comment <b>Header 10</b> / Standard 10-pin 0.1" header. Use with straight break away headers (SKU : PRT-00116), right angle break away headers (PRT-00553), swiss pins (PRT-00743), machine pins (PRT-00117), and female headers (PRT-00115).
footprint 1X10_LOCK_LONGPADS
pins: 1, 2, 3, 4, 5, 6, 7, 8, 9, 10

## M10SMD_COMBO
designator JP?, comment <b>Header 10</b> / Standard 10-pin 0.1" header. Use with straight break away headers (SKU : PRT-00116), right angle break away headers (PRT-00553), swiss pins (PRT-00743), machine pins (PRT-00117), and female headers (PRT-00115).
footprint 1X10_SMD_COMBINED
pins: 1A 1B 1, 2A 2B 2, 3A 3B 3, 4A 4B 4, 5A 5B 5, 6A 6B 6, 7A 7B 7, 8A 8B 8, 9A 9B 9, 10A 10B 10

## M10SMD_MALE
designator JP?, comment <b>Header 10</b> / Standard 10-pin 0.1" header. Use with straight break away headers (SKU : PRT-00116), right angle break away headers (PRT-00553), swiss pins (PRT-00743), machine pins (PRT-00117), and female headers (PRT-00115).
PROD_ID: CONN-11291
footprint 1X10_SMD_MALE
pins: 1, 2, 3, 4, 5, 6, 7, 8, 9, 10

## M10X2
designator ?, comment This was SPECIALLY designed to be used with our Graphic LCD Backpack.  Be sure you want to use this!  It is not only staggered on each line of header holes, but IT IS ALSO offset of the center point of the top and bottom lines by 5 mil.  This causes the headers to lock into place on the "standard" footprint on the LCD screen.  The extra squares on the tdocu layer are there simply to reference other pins (if you were to actually populate a longer header than ten long - this is what we do with the backpacks).
footprint 2X10
pins: 1, 2, 3, 4, 5, 6, 7, 8, 9, 10, 11, 12, 13, 14, 15, 16, 17, 18, 19, 20

## M10X2NOSILK
designator ?, comment This was SPECIALLY designed to be used with our Graphic LCD Backpack.  Be sure you want to use this!  It is not only staggered on each line of header holes, but IT IS ALSO offset of the center point of the top and bottom lines by 5 mil.  This causes the headers to lock into place on the "standard" footprint on the LCD screen.  The extra squares on the tdocu layer are there simply to reference other pins (if you were to actually populate a longer header than ten long - this is what we do with the backpacks).
footprint 2X10_NOSILK
pins: 1, 2, 3, 4, 5, 6, 7, 8, 9, 10, 11, 12, 13, 14, 15, 16, 17, 18, 19, 20

## M10X2SPECIAL
designator ?, comment This was SPECIALLY designed to be used with our Graphic LCD Backpack.  Be sure you want to use this!  It is not only staggered on each line of header holes, but IT IS ALSO offset of the center point of the top and bottom lines by 5 mil.  This causes the headers to lock into place on the "standard" footprint on the LCD screen.  The extra squares on the tdocu layer are there simply to reference other pins (if you were to actually populate a longer header than ten long - this is what we do with the backpacks).
footprint 2X10_LOCK_SPECIAL
pins: 1, 2, 3, 4, 5, 6, 7, 8, 9, 10, 11, 12, 13, 14, 15, 16, 17, 18, 19, 20

## M10X22X10_LOCK
designator ?, comment This was SPECIALLY designed to be used with our Graphic LCD Backpack.  Be sure you want to use this!  It is not only staggered on each line of header holes, but IT IS ALSO offset of the center point of the top and bottom lines by 5 mil.  This causes the headers to lock into place on the "standard" footprint on the LCD screen.  The extra squares on the tdocu layer are there simply to reference other pins (if you were to actually populate a longer header than ten long - this is what we do with the backpacks).
footprint 2X10_LOCK
pins: 1, 2, 3, 4, 5, 6, 7, 8, 9, 10, 11, 12, 13, 14, 15, 16, 17, 18, 19, 20

## M11LOCK
designator JP?, comment <b>Header 11</b> / Standard 11-pin 0.1" header. Use with straight break away headers (SKU : PRT-00116), right angle break away headers (PRT-00553), swiss pins (PRT-00743), machine pins (PRT-00117), and female headers (PRT-00115).
footprint 1X11_LOCK
pins: 1, 2, 3, 4, 5, 6, 7, 8, 9, 10, 11

## M11LOCK_LONGPADS
designator JP?, comment <b>Header 11</b> / Standard 11-pin 0.1" header. Use with straight break away headers (SKU : PRT-00116), right angle break away headers (PRT-00553), swiss pins (PRT-00743), machine pins (PRT-00117), and female headers (PRT-00115).
footprint 1X11_LOCK_LONGPADS
pins: 1, 2, 3, 4, 5, 6, 7, 8, 9, 10, 11

## M11LONGPADS
designator JP?, comment <b>Header 11</b> / Standard 11-pin 0.1" header. Use with straight break away headers (SKU : PRT-00116), right angle break away headers (PRT-00553), swiss pins (PRT-00743), machine pins (PRT-00117), and female headers (PRT-00115).
footprint 1X11_LONGPADS
pins: 1, 2, 3, 4, 5, 6, 7, 8, 9, 10, 11

## M11POGOPIN_HOLES_ONLY
designator JP?, comment <b>Header 11</b> / Standard 11-pin 0.1" header. Use with straight break away headers (SKU : PRT-00116), right angle break away headers (PRT-00553), swiss pins (PRT-00743), machine pins (PRT-00117), and female headers (PRT-00115).
footprint 1X11_HOLES_ONLY
pins: 1, 2, 3, 4, 5, 6, 7, 8, 9, 10, 11

## M11PTH
designator JP?, comment <b>Header 11</b> / Standard 11-pin 0.1" header. Use with straight break away headers (SKU : PRT-00116), right angle break away headers (PRT-00553), swiss pins (PRT-00743), machine pins (PRT-00117), and female headers (PRT-00115).
footprint 1X11
pins: 1, 2, 3, 4, 5, 6, 7, 8, 9, 10, 11

## M11SMD
designator JP?, comment <b>Header 11</b> / Standard 11-pin 0.1" header. Use with straight break away headers (SKU : PRT-00116), right angle break away headers (PRT-00553), swiss pins (PRT-00743), machine pins (PRT-00117), and female headers (PRT-00115).
footprint 1X11_SMD_PTHCOMBO
pins: 1, 2, 3, 4, 5, 6, 7, 8, 9, 10, 11

## M11SMD_NO_HOLES
designator JP?, comment <b>Header 11</b> / Standard 11-pin 0.1" header. Use with straight break away headers (SKU : PRT-00116), right angle break away headers (PRT-00553), swiss pins (PRT-00743), machine pins (PRT-00117), and female headers (PRT-00115).
footprint 1X11_SMD_NO_HOLES
pins: P$1 1, P$2 2, P$3 3, P$4 4, P$5 5, P$6 6, P$7 7, P$8 8, P$9 9, P$10 10, P$11 11

## M12LOCK
designator JP?, comment <b>Header 12</b> / Standard 12-pin 0.1" header. Use with straight break away headers (SKU : PRT-00116), right angle break away headers (PRT-00553), swiss pins (PRT-00743), machine pins (PRT-00117), and female headers (PRT-00115).
footprint 1X12_LOCK
pins: 1, 2, 3, 4, 5, 6, 7, 8, 9, 10, 11, 12

## M12LOCK_LONGPADS
designator JP?, comment <b>Header 12</b> / Standard 12-pin 0.1" header. Use with straight break away headers (SKU : PRT-00116), right angle break away headers (PRT-00553), swiss pins (PRT-00743), machine pins (PRT-00117), and female headers (PRT-00115).
footprint 1X12_LOCK_LONGPADS
pins: 1, 2, 3, 4, 5, 6, 7, 8, 9, 10, 11, 12

## M12LONGPADS
designator JP?, comment <b>Header 12</b> / Standard 12-pin 0.1" header. Use with straight break away headers (SKU : PRT-00116), right angle break away headers (PRT-00553), swiss pins (PRT-00743), machine pins (PRT-00117), and female headers (PRT-00115).
footprint 1X12_LONGPADS
pins: 1, 2, 3, 4, 5, 6, 7, 8, 9, 10, 11, 12

## M12MACHINE-PIN_LOCK
designator JP?, comment <b>Header 12</b> / Standard 12-pin 0.1" header. Use with straight break away headers (SKU : PRT-00116), right angle break away headers (PRT-00553), swiss pins (PRT-00743), machine pins (PRT-00117), and female headers (PRT-00115).
footprint 1X12_MACHINE-PIN-HEADER_LOCK.004
pins: 1, 2, 3, 4, 5, 6, 7, 8, 9, 10, 11, 12

## M12POGOPIN_HOLES_ONLY
designator JP?, comment <b>Header 12</b> / Standard 12-pin 0.1" header. Use with straight break away headers (SKU : PRT-00116), right angle break away headers (PRT-00553), swiss pins (PRT-00743), machine pins (PRT-00117), and female headers (PRT-00115).
footprint 1X12_HOLES_ONLY
pins: 1, 2, 3, 4, 5, 6, 7, 8, 9, 10, 11, 12

## M12PTH
designator JP?, comment <b>Header 12</b> / Standard 12-pin 0.1" header. Use with straight break away headers (SKU : PRT-00116), right angle break away headers (PRT-00553), swiss pins (PRT-00743), machine pins (PRT-00117), and female headers (PRT-00115).
footprint 1X12
pins: 1, 2, 3, 4, 5, 6, 7, 8, 9, 10, 11, 12

## M13
designator JP?, comment 13-pin single row .1" header
footprint 1X13
pins: 1, 2, 3, 4, 5, 6, 7, 8, 9, 10, 11, 12, 13

## M13LONGPADS
designator JP?, comment 13-pin single row .1" header
footprint 1X13-LONGPADS
pins: 1, 2, 3, 4, 5, 6, 7, 8, 9, 10, 11, 12, 13

## M13X22X13
designator JP?, comment 0.1" spaced headers
footprint 2X13
pins: 1, 2, 3, 4, 5, 6, 7, 8, 9, 10, 11, 12, 13, 14, 15, 16, 17, 18, 19, 20, 21, 22, 23, 24, 25, 26

## M14
designator JP?, comment <b>Header 14</b> / Standard 14-pin 0.1" header. Use with straight break away headers (SKU : PRT-00116), right angle break away headers (PRT-00553), swiss pins (PRT-00743), machine pins (PRT-00117), and female headers (PRT-00115).
footprint 1X14
pins: 1, 2, 3, 4, 5, 6, 7, 8, 9, 10, 11, 12, 13, 14

## M14LOCK
designator JP?, comment <b>Header 14</b> / Standard 14-pin 0.1" header. Use with straight break away headers (SKU : PRT-00116), right angle break away headers (PRT-00553), swiss pins (PRT-00743), machine pins (PRT-00117), and female headers (PRT-00115).
footprint 1X14_LOCK
pins: 1, 2, 3, 4, 5, 6, 7, 8, 9, 10, 11, 12, 13, 14

## M14LOCK_LONGPADS
designator JP?, comment <b>Header 14</b> / Standard 14-pin 0.1" header. Use with straight break away headers (SKU : PRT-00116), right angle break away headers (PRT-00553), swiss pins (PRT-00743), machine pins (PRT-00117), and female headers (PRT-00115).
footprint 1X14_LOCK_LONGPADS
pins: 1, 2, 3, 4, 5, 6, 7, 8, 9, 10, 11, 12, 13, 14